# EAGLE library part MPU6500 (library angrypig7-IC)
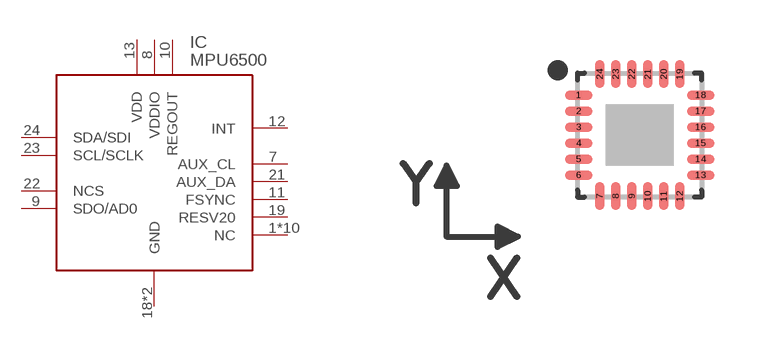
[diagram p17: symbol with the pads of QFN40P305X305X95-25T154X170N; footprint QFN40P305X305X95-25T154X170N]

Designator prefix IC

## MPU6500 (LCSC: C50278)  [QFN40P305X305X95-25T154X170N]
1  NC  nc
2  NC  nc
3  NC  nc
4  NC  nc
5  NC  nc
6  NC  nc
7  AUX_CL  nc
8  VDDIO
9  SDO/AD0
10  REGOUT
11  FSYNC  nc
12  INT
13  VDD
14  NC  nc
15  NC  nc
16  NC  nc
17  NC  nc
18  GND
19  RESV20  nc
20  GND
21  AUX_DA  nc
22  NCS
23  SCL/SCLK
24  SDA/SDI

## Footprint QFN40P305X305X95-25T154X170N (pad centres in mm)
24-QFN, 0.40 mm pitch, 3.05 X 3.05 X 0.95 mm body, 1.54 X 1.70 mm thermal pad 24-pin QFN package with 0.40 mm pitch with body size 3.05 X 3.05 X 0.95 mm and thermal pad size 1.54 X 1.70 mm
smd 0.7 x 0.242: 1 -1.525,1; 2 -1.525,0.6; 3 -1.525,0.2; 4 -1.525,-0.2; 5 -1.525,-0.6; 6 -1.525,-1; 13 1.525,-1; 14 1.525,-0.6; 15 1.525,-0.2; 16 1.525,0.2; 17 1.525,0.6; 18 1.525,1
smd 0.242 x 0.7: 7 -1,-1.525; 8 -0.6,-1.525; 9 -0.2,-1.525; 10 0.2,-1.525; 11 0.6,-1.525; 12 1,-1.525; 19 1,1.525; 20 0.6,1.525; 21 0.2,1.525; 22 -0.2,1.525; 23 -0.6,1.525; 24 -1,1.525